# Altium schematic symbol library MergenElektronik_Capacitors_AluminumElectrolytics_SMDs.SchLib: 4 symbols
Pins are listed as number, name and electrical type; pins without a type are passive.

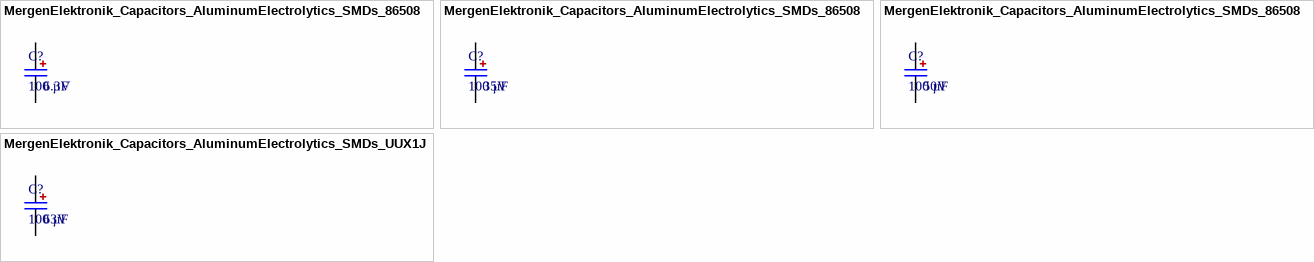
[diagram p0: symbols MergenElektronik_Capacitors_AluminumElectrolytics_SMDs_865080142007 to MergenElektronik_Capacitors_AluminumElectrolytics_SMDs_UUX1J101MNL1GS]

## MergenElektronik_Capacitors_AluminumElectrolytics_SMDs_865080142007
designator C?, comment 100 µF  Voltage Rating: 6.3V
Mergen Elektronik - Capacitors - Aluminum Electrolytics - SMDs - 865080142007; Manufacturer: Würth Elektronik; Model: Aluminum Electrolytic Capacitors; Tolerance: ±20%; Value: 100 µF; Temperature: -55°C up to +105°C; Digi-Key Number: 732-8472-1-ND; Manufacturer Number: 865080142007; Package: 8x10mm; Farnell Number: 2466247; Mouser Number: 710-865080142007; Mounting Type: Surface Mount; Supplier 1: Digi-Key; Supplier 2: Mouser; Supplier Part Number 1: 732-8472-1-ND; Supplier Part Number 2: 710-865080142007
footprint MergenElektronik_Capacitors_AluminumElectrolytics_SMDs_865080142007 (865080142007)
pins: 1, 2

## MergenElektronik_Capacitors_AluminumElectrolytics_SMDs_865080545012
designator C?, comment 100 µF  Voltage Rating: 35V
Mergen Elektronik - Capacitors - Aluminum Electrolytics - SMDs - 865080545012; Manufacturer: Würth Elektronik; Model: Aluminum Electrolytic Capacitors; Tolerance: ±20%; Value: 100 µF; Temperature: -55°C up to +105°C; Digi-Key Number: 732-8461-1-ND; Manufacturer Number: 865080545012; Package: 8x10mm; Farnell Number: 2466321; Mouser Number: 710-865080545012; Mounting Type: Surface Mount; Supplier 1: Digi-Key; Supplier 2: Mouser; Supplier Part Number 1: 732-8511-1-ND; Supplier Part Number 2: 710-865080545012
footprint MergenElektronik_Capacitors_AluminumElectrolytics_SMDs_865080545012 (865080545012)
pins: 1, 2

## MergenElektronik_Capacitors_AluminumElectrolytics_SMDs_865080653016
designator C?, comment 100 µF  Voltage Rating: 50V
Mergen Elektronik- Capacitors - Aluminum Electrolytics - SMDs - 865080653016; Manufacturer: Würth Elektronik; Model: Aluminum Electrolytic Capacitors; Tolerance: ±20%; Value: 100 µF; Temperature: -55°C up to +105°C; Digi-Key Number: 732-8461-1-ND; Manufacturer Number: 865080653016; Package: 8x10mm; Farnell Number: 2466343; Mouser Number: 710-865080653016; Mounting Type: Surface Mount; Supplier 1: Digi-Key; Supplier 2: Mouser; Supplier Part Number 1: 732-8461-1-ND; Supplier Part Number 2: 710-865080653016
footprint MergenElektronik_Capacitors_AluminumElectrolytics_SMDs_865080653016 (865080653016)
pins: 1, 2

## MergenElektronik_Capacitors_AluminumElectrolytics_SMDs_UUX1J101MNL1GS
designator C?, comment 100 µF  Voltage Rating: 63V
Mergen Elektronik - Capacitors - Aluminum Electrolytics - SMDs - UUX1J101MNL1GS; Manufacturer: Nichicon; Model: Aluminum Electrolytic Capacitors; Tolerance: ±20%; Value: 100 µF; Temperature: -55°C up to +105°C; Digi-Key Number: 493-7453-1-ND; Manufacturer Number: UUX1J101MNL1GS; Package: 10x10.5mm; Farnell Number: 2841944; Mouser Number: 647-UUX1J101MNL1GS; Mounting Type: Surface Mount; Supplier 1: Digikey; Supplier 2: Mouser; Supplier Part Number 1: 493-7453-1-ND; Supplier Part Number 2: 647-UUX1J101MNL1GS
footprint MergenElektronik_Capacitors_AluminumElectrolytics_SMDs_10x10.5mm (10mm Diameter 10.5mm Height)
pins: 1, 2